# Altium schematic symbol library SI4497DY-T1-GE3.SchLib: 1 symbol
Pins are listed as number, name and electrical type; pins without a type are passive.

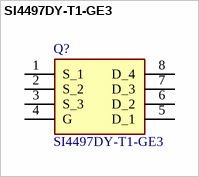
[diagram p0: symbol SI4497DY-T1-GE3]

## SI4497DY-T1-GE3
designator Q?
MOSFET -30V Vds 20V Vgs SO-8; Manufacturer_Name: Vishay; Geometry.Height: 1.75mm; Manufacturer_Part_Number: SI4497DY-T1-GE3; Mouser Part Number: 781-SI4497DY-T1-GE3; Mouser Price/Stock: https://www.mouser.co.uk/ProductDetail/Vishay-Semiconductors/SI4497DY-T1-GE3?qs=WX95TUc1y57nwgYqN479sg%3D%3D; Arrow Part Number: SI4497DY-T1-GE3; Arrow Price/Stock: https://www.arrow.com/en/products/si4497dy-t1-ge3/vishay?utm_currency=USD&region=europe; Datasheet Link: https://www.vishay.com/docs/65748/si4497dy.pdf
footprint SOIC127P600X175-8N
pins: 1 S_1, 2 S_2, 3 S_3, 4 G, 5 D_1, 6 D_2, 7 D_3, 8 D_4